# Altium schematic symbol library A-2004-2-4-LP-N-R.SchLib: 1 symbol
Pins are listed as number, name and electrical type; pins without a type are passive.

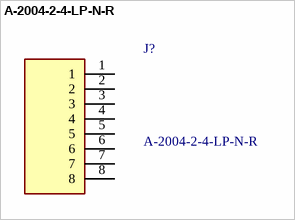
[diagram p0: symbol A-2004-2-4-LP-N-R]

## A-2004-2-4-LP-N-R
designator J?
Conn Modular Jack F 8 POS 2.54mm Solder RA Thru-Hole 8 Terminal 1 Port; Manufacturer_Name: ASSMANN WSW components GmbH; Geometry.Height: 11.75mm; Manufacturer_Part_Number: A-2004-2-4-LP-N-R; Mouser Part Number: *; Mouser Price/Stock: *; Arrow Part Number: A-2004-2-4-LP-N-R; Arrow Price/Stock: https://www.arrow.com/en/products/a-2004-2-4-lp-n-r/assmann-wsw-components-inc?region=nac; Datasheet Link: http://www.assmann-wsw.com/fileadmin/datasheets/ASS_7273_CO.pdf
footprint A200424LPNR
pins: 1, 2, 3, 4, 5, 6, 7, 8